# Altium footprint library gennum.PCBLIB: 4 footprints
Each footprint in its own frame and in the unit in brackets; x right, y up, seen from the top. Pads: shape width x height; smd on the part's side, far side on the other; paste and mask are expansions set on the pad; w line width, h text height; cw(c..) or ccw(c..) is an arc to the next point about the centre after c.
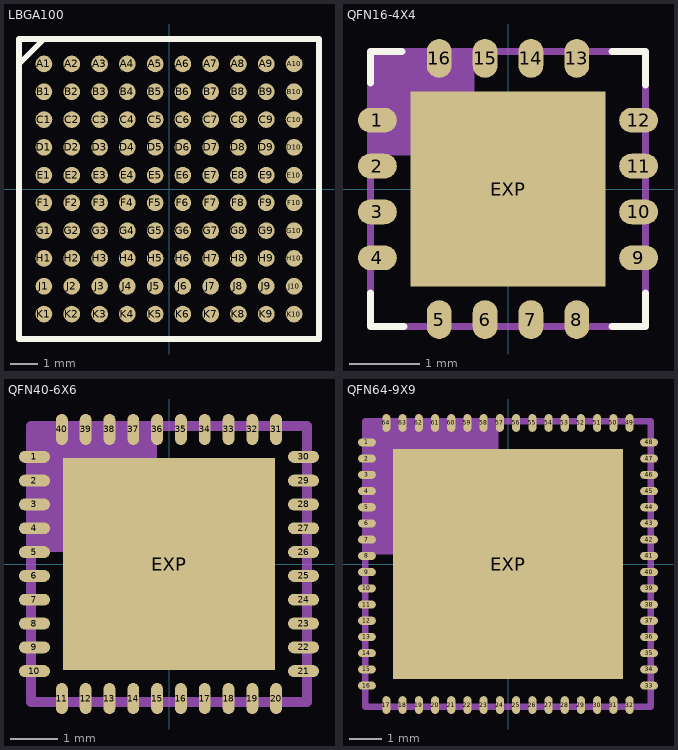
[diagram p0: the footprints below, top view; thin cyan lines are the x and y axes]

## LBGA100 [mm]
pads (100):
  rrect100% 0.6x0.6 smd: A1(-4.5,4.5) A2(-3.5,4.5) A3(-2.5,4.5) A4(-1.5,4.5) A5(-0.5,4.5) A6(0.5,4.5) A7(1.5,4.5) A8(2.5,4.5) A9(3.5,4.5) A10(4.5,4.5) B1(-4.5,3.5) B2(-3.5,3.5) B3(-2.5,3.5) B4(-1.5,3.5) B5(-0.5,3.5) B6(0.5,3.5) B7(1.5,3.5) B8(2.5,3.5) B9(3.5,3.5) B10(4.5,3.5) C1(-4.5,2.5) C2(-3.5,2.5) C3(-2.5,2.5) C4(-1.5,2.5) C5(-0.5,2.5) C6(0.5,2.5) C7(1.5,2.5) C8(2.5,2.5) C9(3.5,2.5) C10(4.5,2.5) D1(-4.5,1.5) D2(-3.5,1.5) D3(-2.5,1.5) D4(-1.5,1.5) D5(-0.5,1.5) D6(0.5,1.5) D7(1.5,1.5) D8(2.5,1.5) D9(3.5,1.5) D10(4.5,1.5) E1(-4.5,0.5) E2(-3.5,0.5) E3(-2.5,0.5) E4(-1.5,0.5) E5(-0.5,0.5) E6(0.5,0.5) E7(1.5,0.5) E8(2.5,0.5) E9(3.5,0.5) E10(4.5,0.5) F1(-4.5,-0.5) F2(-3.5,-0.5) F3(-2.5,-0.5) F4(-1.5,-0.5) F5(-0.5,-0.5) F6(0.5,-0.5) F7(1.5,-0.5) F8(2.5,-0.5) F9(3.5,-0.5) F10(4.5,-0.5) G1(-4.5,-1.5) G2(-3.5,-1.5) G3(-2.5,-1.5) G4(-1.5,-1.5) G5(-0.5,-1.5) G6(0.5,-1.5) G7(1.5,-1.5) G8(2.5,-1.5) G9(3.5,-1.5) G10(4.5,-1.5) H1(-4.5,-2.5) H2(-3.5,-2.5) H3(-2.5,-2.5) H4(-1.5,-2.5) H5(-0.5,-2.5) H6(0.5,-2.5) H7(1.5,-2.5) H8(2.5,-2.5) H9(3.5,-2.5) H10(4.5,-2.5) J1(-4.5,-3.5) J2(-3.5,-3.5) J3(-2.5,-3.5) J4(-1.5,-3.5) J5(-0.5,-3.5) J6(0.5,-3.5) J7(1.5,-3.5) J8(2.5,-3.5) J9(3.5,-3.5) J10(4.5,-3.5) K1(-4.5,-4.5) K2(-3.5,-4.5) K3(-2.5,-4.5) K4(-1.5,-4.5) K5(-0.5,-4.5) K6(0.5,-4.5) K7(1.5,-4.5) K8(2.5,-4.5) K9(3.5,-4.5) K10(4.5,-4.5)
Top Overlay:
  lines w0.203: -5.399,4.5 -5.399,5.399 -4.5,5.399 ; -5.399,4.5 -5.399,-5.399 5.399,-5.399 5.399,5.399 -4.5,5.399 ; -5.399,4.5 -4.5,5.399
Top Solder:
  circle w0: c4.5,-4.5 r0.25
  circle w0: c3.5,-4.5 r0.25
  circle w0: c2.5,-4.5 r0.25
  circle w0: c1.5,-4.5 r0.25
  circle w0: c0.5,-4.5 r0.25
  circle w0: c-0.5,-4.5 r0.25
  circle w0: c-1.5,-4.5 r0.25
  circle w0: c-2.5,-4.5 r0.25
  circle w0: c-3.5,-4.5 r0.25
  circle w0: c-4.5,-4.5 r0.25
  circle w0: c4.5,-3.5 r0.25
  circle w0: c3.5,-3.5 r0.25
  circle w0: c2.5,-3.5 r0.25
  circle w0: c1.5,-3.5 r0.25
  circle w0: c0.5,-3.5 r0.25
  circle w0: c-0.5,-3.5 r0.25
  circle w0: c-1.5,-3.5 r0.25
  circle w0: c-2.5,-3.5 r0.25
  circle w0: c-3.5,-3.5 r0.25
  circle w0: c-4.5,-3.5 r0.25
  circle w0: c4.5,-2.5 r0.25
  circle w0: c3.5,-2.5 r0.25
  circle w0: c2.5,-2.5 r0.25
  circle w0: c1.5,-2.5 r0.25
  circle w0: c0.5,-2.5 r0.25
  circle w0: c-0.5,-2.5 r0.25
  circle w0: c-1.5,-2.5 r0.25
  circle w0: c-2.5,-2.5 r0.25
  circle w0: c-3.5,-2.5 r0.25
  circle w0: c-4.5,-2.5 r0.25
  circle w0: c4.5,-1.5 r0.25
  circle w0: c3.5,-1.5 r0.25
  circle w0: c2.5,-1.5 r0.25
  circle w0: c1.5,-1.5 r0.25
  circle w0: c0.5,-1.5 r0.25
  circle w0: c-0.5,-1.5 r0.25
  circle w0: c-1.5,-1.5 r0.25
  circle w0: c-2.5,-1.5 r0.25
  circle w0: c-3.5,-1.5 r0.25
  circle w0: c-4.5,-1.5 r0.25
  circle w0: c4.5,-0.5 r0.25
  circle w0: c3.5,-0.5 r0.25
  circle w0: c2.5,-0.5 r0.25
  circle w0: c1.5,-0.5 r0.25
  circle w0: c0.5,-0.5 r0.25
  circle w0: c-0.5,-0.5 r0.25
  circle w0: c-1.5,-0.5 r0.25
  circle w0: c-2.5,-0.5 r0.25
  circle w0: c-3.5,-0.5 r0.25
  circle w0: c-4.5,-0.5 r0.25
  circle w0: c4.5,0.5 r0.25
  circle w0: c3.5,0.5 r0.25
  circle w0: c2.5,0.5 r0.25
  circle w0: c1.5,0.5 r0.25
  circle w0: c0.5,0.5 r0.25
  circle w0: c-0.5,0.5 r0.25
  circle w0: c-1.5,0.5 r0.25
  circle w0: c-2.5,0.5 r0.25
  circle w0: c-3.5,0.5 r0.25
  circle w0: c-4.5,0.5 r0.25
  circle w0: c4.5,1.5 r0.25
  circle w0: c3.5,1.5 r0.25
  circle w0: c2.5,1.5 r0.25
  circle w0: c1.5,1.5 r0.25
  circle w0: c0.5,1.5 r0.25
  circle w0: c-0.5,1.5 r0.25
  circle w0: c-1.5,1.5 r0.25
  circle w0: c-2.5,1.5 r0.25
  circle w0: c-3.5,1.5 r0.25
  circle w0: c-4.5,1.5 r0.25
  circle w0: c4.5,2.5 r0.25
  circle w0: c3.5,2.5 r0.25
  circle w0: c2.5,2.5 r0.25
  circle w0: c1.5,2.5 r0.25
  circle w0: c0.5,2.5 r0.25
  circle w0: c-0.5,2.5 r0.25
  circle w0: c-1.5,2.5 r0.25
  circle w0: c-2.5,2.5 r0.25
  circle w0: c-3.5,2.5 r0.25
  circle w0: c-4.5,2.5 r0.25
  circle w0: c4.5,3.5 r0.25
  circle w0: c3.5,3.5 r0.25
  circle w0: c2.5,3.5 r0.25
  circle w0: c1.5,3.5 r0.25
  circle w0: c0.5,3.5 r0.25
  circle w0: c-0.5,3.5 r0.25
  circle w0: c-1.5,3.5 r0.25
  circle w0: c-2.5,3.5 r0.25
  circle w0: c-3.5,3.5 r0.25
  circle w0: c-4.5,3.5 r0.25
  circle w0: c4.5,4.5 r0.25
  circle w0: c3.5,4.5 r0.25
  circle w0: c2.5,4.5 r0.25
  circle w0: c1.5,4.5 r0.25
  circle w0: c0.5,4.5 r0.25
  circle w0: c-0.5,4.5 r0.25
  circle w0: c-1.5,4.5 r0.25
  circle w0: c-2.5,4.5 r0.25
  circle w0: c-3.5,4.5 r0.25
  circle w0: c-4.5,4.5 r0.25

## QFN16-4X4 [mm]
pads (17):
  rrect100% 0.55x0.35 smd: 1(-1.85,0.975) 2(-1.85,0.325) 3(-1.85,-0.325) 4(-1.85,-0.975) 9(1.85,-0.975) 10(1.85,-0.325) 11(1.85,0.325) 12(1.85,0.975)
  rrect100% 0.35x0.55 smd: 5(-0.975,-1.85) 6(-0.325,-1.85) 7(0.325,-1.85) 8(0.975,-1.85) 13(0.975,1.85) 14(0.325,1.85) 15(-0.325,1.85) 16(-0.975,1.85)
  rect 2.76x2.76 smd: EXP(0,0)
Top Overlay:
  lines w0.102: -1.95,-1.475 -1.95,-1.95 -1.475,-1.95 ; -1.95,1.5 -1.95,1.95 -1.5,1.95 ; 1.475,-1.95 1.95,-1.95 1.95,-1.475 ; 1.475,1.95 1.95,1.95 1.95,1.475
Top Paste:
  region: 0,0 0.254,0 0.254,0.254 0,0.254
Top Solder:
  region: 0,0 0.254,0 0.254,0.254 0,0.254
Mechanical 16:
  rectangle: -1.975,0.475 -0.475,1.975
  lines w0.102: -1.95,-1.95 1.95,-1.95 1.95,1.95 -1.95,1.95 -1.95,-1.95

## QFN40-6X6 [mm]
pads (41):
  rrect100% 0.65x0.25 smd: 1(-2.825,2.25) 2(-2.825,1.75) 3(-2.825,1.25) 4(-2.825,0.75) 5(-2.825,0.25) 6(-2.825,-0.25) 7(-2.825,-0.75) 8(-2.825,-1.25) 9(-2.825,-1.75) 10(-2.825,-2.25) 21(2.825,-2.25) 22(2.825,-1.75) 23(2.825,-1.25) 24(2.825,-0.75) 25(2.825,-0.25) 26(2.825,0.25) 27(2.825,0.75) 28(2.825,1.25) 29(2.825,1.75) 30(2.825,2.25)
  rrect100% 0.25x0.65 smd: 11(-2.25,-2.825) 12(-1.75,-2.825) 13(-1.25,-2.825) 14(-0.75,-2.825) 15(-0.25,-2.825) 16(0.25,-2.825) 17(0.75,-2.825) 18(1.25,-2.825) 19(1.75,-2.825) 20(2.25,-2.825) 31(2.25,2.825) 32(1.75,2.825) 33(1.25,2.825) 34(0.75,2.825) 35(0.25,2.825) 36(-0.25,2.825) 37(-0.75,2.825) 38(-1.25,2.825) 39(-1.75,2.825) 40(-2.25,2.825)
  rect 4.45x4.45 smd: EXP(0,0)
Top Paste:
  region: 0,0 0.254,0 0.254,0.254 0,0.254
Top Solder:
  region: 0,0 0.254,0 0.254,0.254 0,0.254
Mechanical 16:
  rectangle: -2.85,0.25 -0.25,2.85
  lines w0.203: -2.898,-2.898 2.898,-2.898 2.898,2.898 -2.898,2.898 -2.898,-2.898

## QFN64-9X9 [mm]
pads (65):
  rrect100% 0.55x0.25 smd: 1(-4.35,3.75) 2(-4.35,3.25) 3(-4.35,2.75) 4(-4.35,2.25) 5(-4.35,1.75) 6(-4.35,1.25) 7(-4.35,0.75) 8(-4.35,0.25) 9(-4.35,-0.25) 10(-4.35,-0.75) 11(-4.35,-1.25) 12(-4.35,-1.75) 13(-4.35,-2.25) 14(-4.35,-2.75) 15(-4.35,-3.25) 16(-4.35,-3.75) 33(4.35,-3.75) 34(4.35,-3.25) 35(4.35,-2.75) 36(4.35,-2.25) 37(4.35,-1.75) 38(4.35,-1.25) 39(4.35,-0.75) 40(4.35,-0.25) 41(4.35,0.25) 42(4.35,0.75) 43(4.35,1.25) 44(4.35,1.75) 45(4.35,2.25) 46(4.35,2.75) 47(4.35,3.25) 48(4.35,3.75)
  rrect100% 0.25x0.55 smd: 17(-3.75,-4.35) 18(-3.25,-4.35) 19(-2.75,-4.35) 20(-2.25,-4.35) 21(-1.75,-4.35) 22(-1.25,-4.35) 23(-0.75,-4.35) 24(-0.25,-4.35) 25(0.25,-4.35) 26(0.75,-4.35) 27(1.25,-4.35) 28(1.75,-4.35) 29(2.25,-4.35) 30(2.75,-4.35) 31(3.25,-4.35) 32(3.75,-4.35) 49(3.75,4.35) 50(3.25,4.35) 51(2.75,4.35) 52(2.25,4.35) 53(1.75,4.35) 54(1.25,4.35) 55(0.75,4.35) 56(0.25,4.35) 57(-0.25,4.35) 58(-0.75,4.35) 59(-1.25,4.35) 60(-1.75,4.35) 61(-2.25,4.35) 62(-2.75,4.35) 63(-3.25,4.35) 64(-3.75,4.35)
  rect 7.1x7.1 smd: EXP(0,0)
Top Paste:
  region: 0,0 0.254,0 0.254,0.254 0,0.254
Top Solder:
  region: 0,0 0.254,0 0.254,0.254 0,0.254
Mechanical 16:
  rectangle: -4.35,0.3 -0.3,4.35
  lines w0.203: -4.399,-4.399 4.399,-4.399 4.399,4.399 -4.399,4.399 -4.399,-4.399